# Altium footprint library MT3608.PcbLib: 1 footprints
Each footprint in its own frame and in the unit in brackets; x right, y up, seen from the top. Pads: shape width x height; smd on the part's side, far side on the other; paste and mask are expansions set on the pad; w line width, h text height; cw(c..) or ccw(c..) is an arc to the next point about the centre after c.
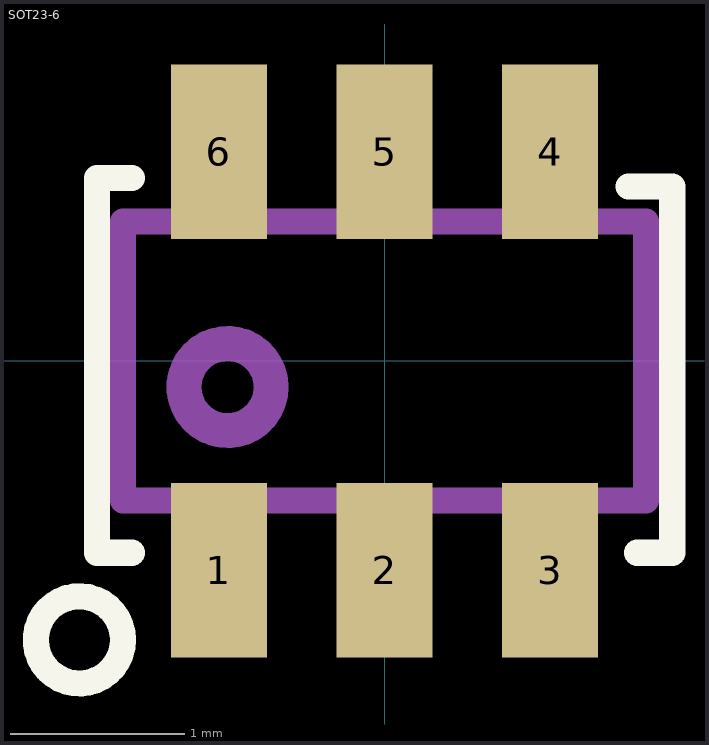
[diagram p0: the footprint, top view; thin cyan lines are the x and y axes]

## SOT23-6 [mm] "6-Lead Small Outline Transistor Package"
height 1.45
pads (6):
  rect 0.55x1 smd: 1(-0.95,-1.2) 2(0,-1.2) 3(0.95,-1.2) 4(0.95,1.2) 5(0,1.2) 6(-0.95,1.2)
Top Overlay:
  circle w0.15: c-1.75,-1.6 r0.25
  lines w0.15: -1.45,-1.1 -1.65,-1.1 -1.65,1.05 -1.45,1.05 ; 1.4,1 1.65,1 1.65,-1.1 1.45,-1.1
Mechanical 1:
  circle w0.2: c-0.9,-0.15 r0.25
  lines w0.15: -0.95,-1.5 -0.95,-0.8 ; -0.95,0.8 -0.95,1.5 ; -0.025,0.8 -0.025,1.5 ; 0,-1.5 0,-0.8 ; 0.95,-1.5 0.95,-0.8 ; 0.95,0.8 0.95,1.5 ; -1.5,-0.8 1.5,-0.8 1.5,0.8 -1.5,0.8 -1.5,-0.8